# Altium integrated library Linear Technology PMIC-Switching Reg LT1074-LT8705.IntLib: 2252 symbols (part 58 of 124)
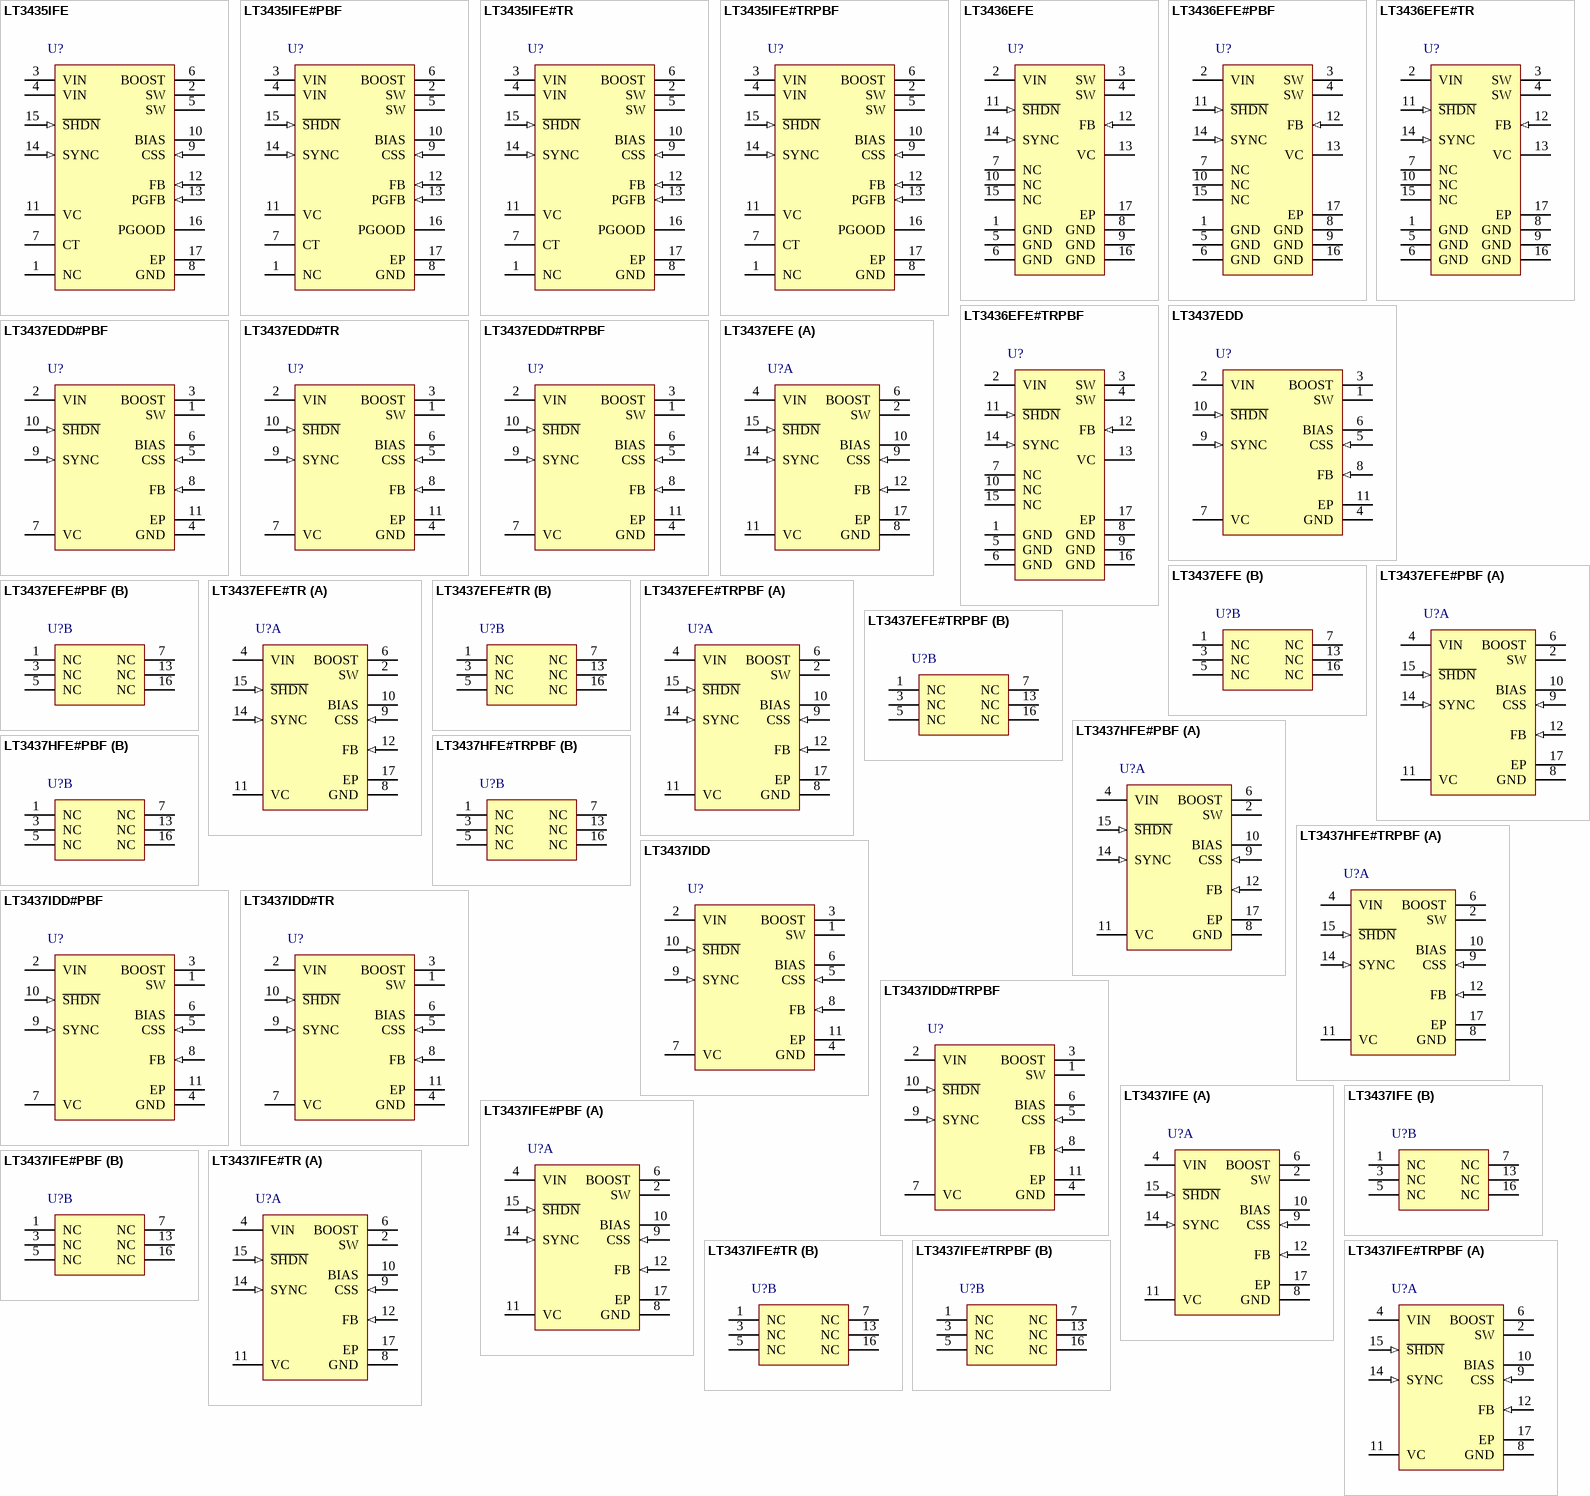
[diagram p128: symbols LT3435IFE to LT3437IFE#TRPBF]

## LT3436EFE#TR
designator U?
3 A, 800 kHz Step-Up Switching Regulator, 16-pin SOP (FE-16-EPV-BB), -40 to 125 degC, Tape and Reel; Manufacturer: Linear Technology; PartNumber: LT3436EFE#TR; Number of Outputs: 1; PackageReference: FE-16; PackageDescription: 16-Pin Plastic TSSOP, Body 5 x 4.4 mm, Pitch 0.65 mm; Supplier 1: Digi-Key; Supplier Part Number 1: LT3436EFE#TR-ND; RoHS: FALSE
footprint LT-FE-16-EPV-BB_N (SOP, 16-Leads, Body 5.1x4.5mm, Pitch 0.65mm, Thermal Pad 3.58x2.94mm, IPC Medium Density)
footprint LT-FE-16-EPV-BB_L (SOP, 16-Leads, Body 5.1x4.5mm, Pitch 0.65mm, Thermal Pad 3.58x2.94mm, IPC High Density)
footprint LT-FE-16-EPV-BB_M (SOP, 16-Leads, Body 5.1x4.5mm, Pitch 0.65mm, Thermal Pad 3.58x2.94mm, IPC Low Density)
pins: 1 GND (power) "Short GND pins 1, 5, 6,8, 9,16 and the exposed pad (pin 17) on the PCB. The GND is the reference for the regulated output, so load regulation will suffer if the “ground“ end of the load is not at the same voltage as (See Datasheet)", 2 VIN (power) "This pin powers the internal circuitry and internal regulator. Keep the external bypass capacitor close to this pin.", 3 SW (power) "The switch pin is the collector of the onchip power NPN switch and has large currents flowing through it. Keep the traces to the switching components as short as possible to minimize radiation and voltage spikes.", 4 SW (power) "The switch pin is the collector of the onchip power NPN switch and has large currents flowing through it. Keep the traces to the switching components as short as possible to minimize radiation and voltage spikes.", 5 GND (power) "Short GND pins 1, 5, 6,8, 9,16 and the exposed pad (pin 17) on the PCB. The GND is the reference for the regulated output, so load regulation will suffer if the “ground“ end of the load is not at the same voltage as (See Datasheet)", 6 GND (power) "Short GND pins 1, 5, 6,8, 9,16 and the exposed pad (pin 17) on the PCB. The GND is the reference for the regulated output, so load regulation will suffer if the “ground“ end of the load is not at the same voltage as (See Datasheet)", 7 NC, 8 GND (power) "Short GND pins 1, 5, 6,8, 9,16 and the exposed pad (pin 17) on the PCB. The GND is the reference for the regulated output, so load regulation will suffer if the “ground“ end of the load is not at the same voltage as (See Datasheet)", 9 GND (power) "Short GND pins 1, 5, 6,8, 9,16 and the exposed pad (pin 17) on the PCB. The GND is the reference for the regulated output, so load regulation will suffer if the “ground“ end of the load is not at the same voltage as (See Datasheet)", 10 NC, 11 ~{SHDN} (in) "The shutdown pin is used to turn off the regulator and to reduce input drain current to a few microamperes. The 1.35V threshold can function as an accurate undervoltage lockout (UVLO), preventing the regulator from operating (See Datasheet)", 12 FB (in) "The feedback pin is used to set output voltage using an external voltage divider that generates 1.2V at the pin with the desired output voltage. If required, the current limit can be reduced during start up when the FB pin (See Datasheet)", 13 VC "The VC pin is the output of the error amplifier and the input of the peak switch current comparator. It is normally used for frequency compensation, but can do double duty as a current clamp or control loop override. This (See Datasheet)", 14 SYNC (in) "The sync pin is used to synchronize the internal oscillator to an external signal. It is directly logic compatible and can be driven with any signal between 20% and 80% duty cycle. The synchronizing range is equal to initial (See Datasheet)", 15 NC, 16 GND (power) "Short GND pins 1, 5, 6,8, 9,16 and the exposed pad (pin 17) on the PCB. The GND is the reference for the regulated output, so load regulation will suffer if the “ground“ end of the load is not at the same voltage as (See Datasheet)", 17 EP (power) "Short GND pins 1, 5, 6,8, 9,16 and the exposed pad (pin 17) on the PCB. The GND is the reference for the regulated output, so load regulation will suffer if the “ground“ end of the load is not at the same voltage as (See Datasheet)"

## LT3436EFE#TRPBF
designator U?
3 A, 800 kHz Step-Up Switching Regulator, 16-pin SOP (FE-16-EPV-BB), -40 to 125 degC, Pb-Free, Tape and Reel; Manufacturer: Linear Technology; PartNumber: LT3436EFE#TRPBF; Number of Outputs: 1; PackageReference: FE-16; PackageDescription: 16-Pin Plastic TSSOP, Body 5 x 4.4 mm, Pitch 0.65 mm; Supplier 1: Digi-Key; Supplier Part Number 1: LT3436EFE#TRPBF-ND; RoHS: TRUE
footprint LT-FE-16-EPV-BB_N (SOP, 16-Leads, Body 5.1x4.5mm, Pitch 0.65mm, Thermal Pad 3.58x2.94mm, IPC Medium Density)
footprint LT-FE-16-EPV-BB_L (SOP, 16-Leads, Body 5.1x4.5mm, Pitch 0.65mm, Thermal Pad 3.58x2.94mm, IPC High Density)
footprint LT-FE-16-EPV-BB_M (SOP, 16-Leads, Body 5.1x4.5mm, Pitch 0.65mm, Thermal Pad 3.58x2.94mm, IPC Low Density)
pins: 1 GND (power) "Short GND pins 1, 5, 6,8, 9,16 and the exposed pad (pin 17) on the PCB. The GND is the reference for the regulated output, so load regulation will suffer if the “ground“ end of the load is not at the same voltage as (See Datasheet)", 2 VIN (power) "This pin powers the internal circuitry and internal regulator. Keep the external bypass capacitor close to this pin.", 3 SW (power) "The switch pin is the collector of the onchip power NPN switch and has large currents flowing through it. Keep the traces to the switching components as short as possible to minimize radiation and voltage spikes.", 4 SW (power) "The switch pin is the collector of the onchip power NPN switch and has large currents flowing through it. Keep the traces to the switching components as short as possible to minimize radiation and voltage spikes.", 5 GND (power) "Short GND pins 1, 5, 6,8, 9,16 and the exposed pad (pin 17) on the PCB. The GND is the reference for the regulated output, so load regulation will suffer if the “ground“ end of the load is not at the same voltage as (See Datasheet)", 6 GND (power) "Short GND pins 1, 5, 6,8, 9,16 and the exposed pad (pin 17) on the PCB. The GND is the reference for the regulated output, so load regulation will suffer if the “ground“ end of the load is not at the same voltage as (See Datasheet)", 7 NC, 8 GND (power) "Short GND pins 1, 5, 6,8, 9,16 and the exposed pad (pin 17) on the PCB. The GND is the reference for the regulated output, so load regulation will suffer if the “ground“ end of the load is not at the same voltage as (See Datasheet)", 9 GND (power) "Short GND pins 1, 5, 6,8, 9,16 and the exposed pad (pin 17) on the PCB. The GND is the reference for the regulated output, so load regulation will suffer if the “ground“ end of the load is not at the same voltage as (See Datasheet)", 10 NC, 11 ~{SHDN} (in) "The shutdown pin is used to turn off the regulator and to reduce input drain current to a few microamperes. The 1.35V threshold can function as an accurate undervoltage lockout (UVLO), preventing the regulator from operating (See Datasheet)", 12 FB (in) "The feedback pin is used to set output voltage using an external voltage divider that generates 1.2V at the pin with the desired output voltage. If required, the current limit can be reduced during start up when the FB pin (See Datasheet)", 13 VC "The VC pin is the output of the error amplifier and the input of the peak switch current comparator. It is normally used for frequency compensation, but can do double duty as a current clamp or control loop override. This (See Datasheet)", 14 SYNC (in) "The sync pin is used to synchronize the internal oscillator to an external signal. It is directly logic compatible and can be driven with any signal between 20% and 80% duty cycle. The synchronizing range is equal to initial (See Datasheet)", 15 NC, 16 GND (power) "Short GND pins 1, 5, 6,8, 9,16 and the exposed pad (pin 17) on the PCB. The GND is the reference for the regulated output, so load regulation will suffer if the “ground“ end of the load is not at the same voltage as (See Datasheet)", 17 EP (power) "Short GND pins 1, 5, 6,8, 9,16 and the exposed pad (pin 17) on the PCB. The GND is the reference for the regulated output, so load regulation will suffer if the “ground“ end of the load is not at the same voltage as (See Datasheet)"

## LT3437EDD
designator U?
High Voltage 500 mA, 200 kHz Step-Down Switching Regulator with 100 uA Quiescent Current, 10-pin SON (DD-10), -40 to 125 degC; Manufacturer: Linear Technology; PartNumber: LT3437EDD; Number of Outputs: 1; PackageReference: DD-10; PackageDescription: 10-Pin Plastic DFN, Body 3 x 3 mm, Pitch 0.5 mm; RoHS: FALSE
footprint LT-DD-10_V (SON, 10-Leads, Body 3x3mm, Pitch 0.5mm, Thermal Pad 2.38x1.65mm)
pins: 1 SW (power) "The SW pin is the emitter of the on-chip power NPN switch. This pin is driven up to the input pin voltage during switch on time. Inductor current drives the SW pin negative during switch off time. Negative voltage is clamped (See Datasheet)", 2 VIN (power) "This is the collector of the on-chip power NPN switch. VIN powers the internal control circuitry when a voltage on the BIAS pin is not present. High di/dt edges occur on this pin during switch turn on and off. Keep the path (See Datasheet)", 3 BOOST "The BOOST pin is used to provide a drive voltage, higher than the input voltage, to the internal bipolar NPN power switch. Without this added voltage, the typical switch voltage loss would be about 1.5V. The additional BOOST (See Datasheet)", 4 GND (power) "The GND pin connection acts as the reference for the regulated output, so load regulation will suffer if the “ground?end of the load is not at the same voltage as the GND pin of the IC. This condition will occur w(See Datasheet)", 5 CSS (in) "A capacitor from the CSS pin to the regulated output voltage determines the output voltage ramp rate during start-up. When the current through the CSS capacitor exceeds the CSS threshold (ICSS), the voltage ramp of the (See Datasheet)", 6 BIAS (power) "The BIAS pin is used to improve efficiency when operating at higher input voltages and light load current. Connecting this pin to the regulated output voltage forces most of the internal circuitry to draw its operating (See Datasheet)", 7 VC "The VC pin is the output of the error amplifier and the input of the peak switch current comparator. It is normally used for frequency compensation, but can also serve as a current clamp or control loop override. VC sits at (See Datasheet)", 8 FB (in) "The feedback pin is used to determine the output voltage using an external voltage divider from the output that generates 1.25V at the FB pin. When the FB pin drops below 0.9V, switching frequency is reduced, the SYNC (See Datasheet)", 9 SYNC (in) "The SYNC pin is used to synchronize the internal oscillator to an external signal. It is directly logic compatible and can be driven with any signal between 25% and 75% duty cycle. The synchronizing range is equal to maximum (See Datasheet)", 10 ~{SHDN} (in) "The S\H\D\N\ pin is used to turn off the regulator and to reduce input current to less than 1uA. The S\H\D\N\ pin requires a voltage above 1.3V with a typical source current of 5uA to take the IC out of the shutdown state.", 11 EP (power) "Ground. Must be soldered to the PCB."

## LT3437EDD#PBF
designator U?
High Voltage 500 mA, 200 kHz Step-Down Switching Regulator with 100 uA Quiescent Current, 10-pin SON (DD-10), -40 to 125 degC, Pb-Free; Manufacturer: Linear Technology; PartNumber: LT3437EDD#PBF; Number of Outputs: 1; PackageReference: DD-10; PackageDescription: 10-Pin Plastic DFN, Body 3 x 3 mm, Pitch 0.5 mm; Supplier 1: Digi-Key; Supplier Part Number 1: LT3437EDD#PBF-ND; RoHS: TRUE
footprint LT-DD-10_V (SON, 10-Leads, Body 3x3mm, Pitch 0.5mm, Thermal Pad 2.38x1.65mm)
pins: 1 SW (power) "The SW pin is the emitter of the on-chip power NPN switch. This pin is driven up to the input pin voltage during switch on time. Inductor current drives the SW pin negative during switch off time. Negative voltage is clamped (See Datasheet)", 2 VIN (power) "This is the collector of the on-chip power NPN switch. VIN powers the internal control circuitry when a voltage on the BIAS pin is not present. High di/dt edges occur on this pin during switch turn on and off. Keep the path (See Datasheet)", 3 BOOST "The BOOST pin is used to provide a drive voltage, higher than the input voltage, to the internal bipolar NPN power switch. Without this added voltage, the typical switch voltage loss would be about 1.5V. The additional BOOST (See Datasheet)", 4 GND (power) "The GND pin connection acts as the reference for the regulated output, so load regulation will suffer if the “ground?end of the load is not at the same voltage as the GND pin of the IC. This condition will occur w(See Datasheet)", 5 CSS (in) "A capacitor from the CSS pin to the regulated output voltage determines the output voltage ramp rate during start-up. When the current through the CSS capacitor exceeds the CSS threshold (ICSS), the voltage ramp of the (See Datasheet)", 6 BIAS (power) "The BIAS pin is used to improve efficiency when operating at higher input voltages and light load current. Connecting this pin to the regulated output voltage forces most of the internal circuitry to draw its operating (See Datasheet)", 7 VC "The VC pin is the output of the error amplifier and the input of the peak switch current comparator. It is normally used for frequency compensation, but can also serve as a current clamp or control loop override. VC sits at (See Datasheet)", 8 FB (in) "The feedback pin is used to determine the output voltage using an external voltage divider from the output that generates 1.25V at the FB pin. When the FB pin drops below 0.9V, switching frequency is reduced, the SYNC (See Datasheet)", 9 SYNC (in) "The SYNC pin is used to synchronize the internal oscillator to an external signal. It is directly logic compatible and can be driven with any signal between 25% and 75% duty cycle. The synchronizing range is equal to maximum (See Datasheet)", 10 ~{SHDN} (in) "The S\H\D\N\ pin is used to turn off the regulator and to reduce input current to less than 1uA. The S\H\D\N\ pin requires a voltage above 1.3V with a typical source current of 5uA to take the IC out of the shutdown state.", 11 EP (power) "Ground. Must be soldered to the PCB."

## LT3437EDD#TR
designator U?
High Voltage 500 mA, 200 kHz Step-Down Switching Regulator with 100 uA Quiescent Current, 10-pin SON (DD-10), -40 to 125 degC, Tape and Reel; Manufacturer: Linear Technology; PartNumber: LT3437EDD#TR; Number of Outputs: 1; PackageReference: DD-10; PackageDescription: 10-Pin Plastic DFN, Body 3 x 3 mm, Pitch 0.5 mm; RoHS: FALSE
footprint LT-DD-10_V (SON, 10-Leads, Body 3x3mm, Pitch 0.5mm, Thermal Pad 2.38x1.65mm)
pins: 1 SW (power) "The SW pin is the emitter of the on-chip power NPN switch. This pin is driven up to the input pin voltage during switch on time. Inductor current drives the SW pin negative during switch off time. Negative voltage is clamped (See Datasheet)", 2 VIN (power) "This is the collector of the on-chip power NPN switch. VIN powers the internal control circuitry when a voltage on the BIAS pin is not present. High di/dt edges occur on this pin during switch turn on and off. Keep the path (See Datasheet)", 3 BOOST "The BOOST pin is used to provide a drive voltage, higher than the input voltage, to the internal bipolar NPN power switch. Without this added voltage, the typical switch voltage loss would be about 1.5V. The additional BOOST (See Datasheet)", 4 GND (power) "The GND pin connection acts as the reference for the regulated output, so load regulation will suffer if the “ground?end of the load is not at the same voltage as the GND pin of the IC. This condition will occur w(See Datasheet)", 5 CSS (in) "A capacitor from the CSS pin to the regulated output voltage determines the output voltage ramp rate during start-up. When the current through the CSS capacitor exceeds the CSS threshold (ICSS), the voltage ramp of the (See Datasheet)", 6 BIAS (power) "The BIAS pin is used to improve efficiency when operating at higher input voltages and light load current. Connecting this pin to the regulated output voltage forces most of the internal circuitry to draw its operating (See Datasheet)", 7 VC "The VC pin is the output of the error amplifier and the input of the peak switch current comparator. It is normally used for frequency compensation, but can also serve as a current clamp or control loop override. VC sits at (See Datasheet)", 8 FB (in) "The feedback pin is used to determine the output voltage using an external voltage divider from the output that generates 1.25V at the FB pin. When the FB pin drops below 0.9V, switching frequency is reduced, the SYNC (See Datasheet)", 9 SYNC (in) "The SYNC pin is used to synchronize the internal oscillator to an external signal. It is directly logic compatible and can be driven with any signal between 25% and 75% duty cycle. The synchronizing range is equal to maximum (See Datasheet)", 10 ~{SHDN} (in) "The S\H\D\N\ pin is used to turn off the regulator and to reduce input current to less than 1uA. The S\H\D\N\ pin requires a voltage above 1.3V with a typical source current of 5uA to take the IC out of the shutdown state.", 11 EP (power) "Ground. Must be soldered to the PCB."

## LT3437EDD#TRPBF
designator U?
High Voltage 500 mA, 200 kHz Step-Down Switching Regulator with 100 uA Quiescent Current, 10-pin SON (DD-10), -40 to 125 degC, Pb-Free, Tape and Reel; Manufacturer: Linear Technology; PartNumber: LT3437EDD#TRPBF; Number of Outputs: 1; PackageReference: DD-10; PackageDescription: 10-Pin Plastic DFN, Body 3 x 3 mm, Pitch 0.5 mm; Supplier 1: Digi-Key; Supplier Part Number 1: LT3437EDD#TRPBF-ND; RoHS: TRUE
footprint LT-DD-10_V (SON, 10-Leads, Body 3x3mm, Pitch 0.5mm, Thermal Pad 2.38x1.65mm)
pins: 1 SW (power) "The SW pin is the emitter of the on-chip power NPN switch. This pin is driven up to the input pin voltage during switch on time. Inductor current drives the SW pin negative during switch off time. Negative voltage is clamped (See Datasheet)", 2 VIN (power) "This is the collector of the on-chip power NPN switch. VIN powers the internal control circuitry when a voltage on the BIAS pin is not present. High di/dt edges occur on this pin during switch turn on and off. Keep the path (See Datasheet)", 3 BOOST "The BOOST pin is used to provide a drive voltage, higher than the input voltage, to the internal bipolar NPN power switch. Without this added voltage, the typical switch voltage loss would be about 1.5V. The additional BOOST (See Datasheet)", 4 GND (power) "The GND pin connection acts as the reference for the regulated output, so load regulation will suffer if the “ground?end of the load is not at the same voltage as the GND pin of the IC. This condition will occur w(See Datasheet)", 5 CSS (in) "A capacitor from the CSS pin to the regulated output voltage determines the output voltage ramp rate during start-up. When the current through the CSS capacitor exceeds the CSS threshold (ICSS), the voltage ramp of the (See Datasheet)", 6 BIAS (power) "The BIAS pin is used to improve efficiency when operating at higher input voltages and light load current. Connecting this pin to the regulated output voltage forces most of the internal circuitry to draw its operating (See Datasheet)", 7 VC "The VC pin is the output of the error amplifier and the input of the peak switch current comparator. It is normally used for frequency compensation, but can also serve as a current clamp or control loop override. VC sits at (See Datasheet)", 8 FB (in) "The feedback pin is used to determine the output voltage using an external voltage divider from the output that generates 1.25V at the FB pin. When the FB pin drops below 0.9V, switching frequency is reduced, the SYNC (See Datasheet)", 9 SYNC (in) "The SYNC pin is used to synchronize the internal oscillator to an external signal. It is directly logic compatible and can be driven with any signal between 25% and 75% duty cycle. The synchronizing range is equal to maximum (See Datasheet)", 10 ~{SHDN} (in) "The S\H\D\N\ pin is used to turn off the regulator and to reduce input current to less than 1uA. The S\H\D\N\ pin requires a voltage above 1.3V with a typical source current of 5uA to take the IC out of the shutdown state.", 11 EP (power) "Ground. Must be soldered to the PCB."

## LT3437EFE
designator U?
High Voltage 500 mA, 200 kHz Step-Down Switching Regulator with 100 uA Quiescent Current, 16-pin SOP (FE-16), -40 to 125 degC; Manufacturer: Linear Technology; PartNumber: LT3437EFE; Number of Outputs: 1; PackageReference: FE-16; PackageDescription: 16-Pin Plastic TSSOP, Body 5 x 4.4 mm, Pitch 0.65 mm; RoHS: FALSE
footprint LT-FE-16-EPV-BC_N (SOP, 16-Leads, Body 5.1x4.5mm, Pitch 0.65mm, Thermal Pad 3.58x2.94mm, IPC Medium Density)
footprint LT-FE-16-EPV-BC_L (SOP, 16-Leads, Body 5.1x4.5mm, Pitch 0.65mm, Thermal Pad 3.58x2.94mm, IPC High Density)
footprint LT-FE-16-EPV-BC_M (SOP, 16-Leads, Body 5.1x4.5mm, Pitch 0.65mm, Thermal Pad 3.58x2.94mm, IPC Low Density)
part A pins: 2 SW (power) "The SW pin is the emitter of the on-chip power NPN switch. This pin is driven up to the input pin voltage during switch on time. Inductor current drives the SW pin negative during switch off time. Negative voltage is clamped (See Datasheet)", 4 VIN (power) "This is the collector of the on-chip power NPN switch. VIN powers the internal control circuitry when a voltage on the BIAS pin is not present. High di/dt edges occur on this pin during switch turn on and off. Keep the path (See Datasheet)", 6 BOOST "The BOOST pin is used to provide a drive voltage, higher than the input voltage, to the internal bipolar NPN power switch. Without this added voltage, the typical switch voltage loss would be about 1.5V. The additional BOOST (See Datasheet)", 8 GND (power) "The GND pin connection acts as the reference for the regulated output, so load regulation will suffer if the “ground?end of the load is not at the same voltage as the GND pin of the IC. This condition will occur w(See Datasheet)", 9 CSS (in) "A capacitor from the CSS pin to the regulated output voltage determines the output voltage ramp rate during start-up. When the current through the CSS capacitor exceeds the CSS threshold (ICSS), the voltage ramp of the (See Datasheet)", 10 BIAS (power) "The BIAS pin is used to improve efficiency when operating at higher input voltages and light load current. Connecting this pin to the regulated output voltage forces most of the internal circuitry to draw its operating (See Datasheet)", 11 VC "The VC pin is the output of the error amplifier and the input of the peak switch current comparator. It is normally used for frequency compensation, but can also serve as a current clamp or control loop override. VC sits at (See Datasheet)", 12 FB (in) "The feedback pin is used to determine the output voltage using an external voltage divider from the output that generates 1.25V at the FB pin. When the FB pin drops below 0.9V, switching frequency is reduced, the SYNC (See Datasheet)", 14 SYNC (in) "The SYNC pin is used to synchronize the internal oscillator to an external signal. It is directly logic compatible and can be driven with any signal between 25% and 75% duty cycle. The synchronizing range is equal to maximum (See Datasheet)", 15 ~{SHDN} (in) "The S\H\D\N\ pin is used to turn off the regulator and to reduce input current to less than 1uA. The S\H\D\N\ pin requires a voltage above 1.3V with a typical source current of 5uA to take the IC out of the shutdown state.", 17 EP (power) "Ground. Must be soldered to the PCB."
part B pins: 1 NC "No Connection. The NC pins are electrically isolated from the LT3437. The NC pins may be connected to PCB traces to aid PCB layout.", 3 NC "No Connection. The NC pins are electrically isolated from the LT3437. The NC pins may be connected to PCB traces to aid PCB layout.", 5 NC "No Connection. The NC pins are electrically isolated from the LT3437. The NC pins may be connected to PCB traces to aid PCB layout.", 7 NC "No Connection. The NC pins are electrically isolated from the LT3437. The NC pins may be connected to PCB traces to aid PCB layout.", 13 NC "No Connection. The NC pins are electrically isolated from the LT3437. The NC pins may be connected to PCB traces to aid PCB layout.", 16 NC "No Connection. The NC pins are electrically isolated from the LT3437. The NC pins may be connected to PCB traces to aid PCB layout."

## LT3437EFE#PBF
designator U?
High Voltage 500 mA, 200 kHz Step-Down Switching Regulator with 100 uA Quiescent Current, 16-pin SOP (FE-16), -40 to 125 degC, Pb-Free; Manufacturer: Linear Technology; PartNumber: LT3437EFE#PBF; Number of Outputs: 1; PackageReference: FE-16; PackageDescription: 16-Pin Plastic TSSOP, Body 5 x 4.4 mm, Pitch 0.65 mm; Supplier 1: Digi-Key; Supplier Part Number 1: LT3437EFE#PBF-ND; RoHS: TRUE
footprint LT-FE-16-EPV-BC_N (SOP, 16-Leads, Body 5.1x4.5mm, Pitch 0.65mm, Thermal Pad 3.58x2.94mm, IPC Medium Density)
footprint LT-FE-16-EPV-BC_L (SOP, 16-Leads, Body 5.1x4.5mm, Pitch 0.65mm, Thermal Pad 3.58x2.94mm, IPC High Density)
footprint LT-FE-16-EPV-BC_M (SOP, 16-Leads, Body 5.1x4.5mm, Pitch 0.65mm, Thermal Pad 3.58x2.94mm, IPC Low Density)
part A pins: 2 SW (power) "The SW pin is the emitter of the on-chip power NPN switch. This pin is driven up to the input pin voltage during switch on time. Inductor current drives the SW pin negative during switch off time. Negative voltage is clamped (See Datasheet)", 4 VIN (power) "This is the collector of the on-chip power NPN switch. VIN powers the internal control circuitry when a voltage on the BIAS pin is not present. High di/dt edges occur on this pin during switch turn on and off. Keep the path (See Datasheet)", 6 BOOST "The BOOST pin is used to provide a drive voltage, higher than the input voltage, to the internal bipolar NPN power switch. Without this added voltage, the typical switch voltage loss would be about 1.5V. The additional BOOST (See Datasheet)", 8 GND (power) "The GND pin connection acts as the reference for the regulated output, so load regulation will suffer if the “ground?end of the load is not at the same voltage as the GND pin of the IC. This condition will occur w(See Datasheet)", 9 CSS (in) "A capacitor from the CSS pin to the regulated output voltage determines the output voltage ramp rate during start-up. When the current through the CSS capacitor exceeds the CSS threshold (ICSS), the voltage ramp of the (See Datasheet)", 10 BIAS (power) "The BIAS pin is used to improve efficiency when operating at higher input voltages and light load current. Connecting this pin to the regulated output voltage forces most of the internal circuitry to draw its operating (See Datasheet)", 11 VC "The VC pin is the output of the error amplifier and the input of the peak switch current comparator. It is normally used for frequency compensation, but can also serve as a current clamp or control loop override. VC sits at (See Datasheet)", 12 FB (in) "The feedback pin is used to determine the output voltage using an external voltage divider from the output that generates 1.25V at the FB pin. When the FB pin drops below 0.9V, switching frequency is reduced, the SYNC (See Datasheet)", 14 SYNC (in) "The SYNC pin is used to synchronize the internal oscillator to an external signal. It is directly logic compatible and can be driven with any signal between 25% and 75% duty cycle. The synchronizing range is equal to maximum (See Datasheet)", 15 ~{SHDN} (in) "The S\H\D\N\ pin is used to turn off the regulator and to reduce input current to less than 1uA. The S\H\D\N\ pin requires a voltage above 1.3V with a typical source current of 5uA to take the IC out of the shutdown state.", 17 EP (power) "Ground. Must be soldered to the PCB."
part B pins: 1 NC "No Connection. The NC pins are electrically isolated from the LT3437. The NC pins may be connected to PCB traces to aid PCB layout.", 3 NC "No Connection. The NC pins are electrically isolated from the LT3437. The NC pins may be connected to PCB traces to aid PCB layout.", 5 NC "No Connection. The NC pins are electrically isolated from the LT3437. The NC pins may be connected to PCB traces to aid PCB layout.", 7 NC "No Connection. The NC pins are electrically isolated from the LT3437. The NC pins may be connected to PCB traces to aid PCB layout.", 13 NC "No Connection. The NC pins are electrically isolated from the LT3437. The NC pins may be connected to PCB traces to aid PCB layout.", 16 NC "No Connection. The NC pins are electrically isolated from the LT3437. The NC pins may be connected to PCB traces to aid PCB layout."

## LT3437EFE#TR
designator U?
High Voltage 500 mA, 200 kHz Step-Down Switching Regulator with 100 uA Quiescent Current, 16-pin SOP (FE-16), -40 to 125 degC, Tape and Reel; Manufacturer: Linear Technology; PartNumber: LT3437EFE#TR; Number of Outputs: 1; PackageReference: FE-16; PackageDescription: 16-Pin Plastic TSSOP, Body 5 x 4.4 mm, Pitch 0.65 mm; RoHS: FALSE
footprint LT-FE-16-EPV-BC_N (SOP, 16-Leads, Body 5.1x4.5mm, Pitch 0.65mm, Thermal Pad 3.58x2.94mm, IPC Medium Density)
footprint LT-FE-16-EPV-BC_L (SOP, 16-Leads, Body 5.1x4.5mm, Pitch 0.65mm, Thermal Pad 3.58x2.94mm, IPC High Density)
footprint LT-FE-16-EPV-BC_M (SOP, 16-Leads, Body 5.1x4.5mm, Pitch 0.65mm, Thermal Pad 3.58x2.94mm, IPC Low Density)
part A pins: 2 SW (power) "The SW pin is the emitter of the on-chip power NPN switch. This pin is driven up to the input pin voltage during switch on time. Inductor current drives the SW pin negative during switch off time. Negative voltage is clamped (See Datasheet)", 4 VIN (power) "This is the collector of the on-chip power NPN switch. VIN powers the internal control circuitry when a voltage on the BIAS pin is not present. High di/dt edges occur on this pin during switch turn on and off. Keep the path (See Datasheet)", 6 BOOST "The BOOST pin is used to provide a drive voltage, higher than the input voltage, to the internal bipolar NPN power switch. Without this added voltage, the typical switch voltage loss would be about 1.5V. The additional BOOST (See Datasheet)", 8 GND (power) "The GND pin connection acts as the reference for the regulated output, so load regulation will suffer if the “ground?end of the load is not at the same voltage as the GND pin of the IC. This condition will occur w(See Datasheet)", 9 CSS (in) "A capacitor from the CSS pin to the regulated output voltage determines the output voltage ramp rate during start-up. When the current through the CSS capacitor exceeds the CSS threshold (ICSS), the voltage ramp of the (See Datasheet)", 10 BIAS (power) "The BIAS pin is used to improve efficiency when operating at higher input voltages and light load current. Connecting this pin to the regulated output voltage forces most of the internal circuitry to draw its operating (See Datasheet)", 11 VC "The VC pin is the output of the error amplifier and the input of the peak switch current comparator. It is normally used for frequency compensation, but can also serve as a current clamp or control loop override. VC sits at (See Datasheet)", 12 FB (in) "The feedback pin is used to determine the output voltage using an external voltage divider from the output that generates 1.25V at the FB pin. When the FB pin drops below 0.9V, switching frequency is reduced, the SYNC (See Datasheet)", 14 SYNC (in) "The SYNC pin is used to synchronize the internal oscillator to an external signal. It is directly logic compatible and can be driven with any signal between 25% and 75% duty cycle. The synchronizing range is equal to maximum (See Datasheet)", 15 ~{SHDN} (in) "The S\H\D\N\ pin is used to turn off the regulator and to reduce input current to less than 1uA. The S\H\D\N\ pin requires a voltage above 1.3V with a typical source current of 5uA to take the IC out of the shutdown state.", 17 EP (power) "Ground. Must be soldered to the PCB."
part B pins: 1 NC "No Connection. The NC pins are electrically isolated from the LT3437. The NC pins may be connected to PCB traces to aid PCB layout.", 3 NC "No Connection. The NC pins are electrically isolated from the LT3437. The NC pins may be connected to PCB traces to aid PCB layout.", 5 NC "No Connection. The NC pins are electrically isolated from the LT3437. The NC pins may be connected to PCB traces to aid PCB layout.", 7 NC "No Connection. The NC pins are electrically isolated from the LT3437. The NC pins may be connected to PCB traces to aid PCB layout.", 13 NC "No Connection. The NC pins are electrically isolated from the LT3437. The NC pins may be connected to PCB traces to aid PCB layout.", 16 NC "No Connection. The NC pins are electrically isolated from the LT3437. The NC pins may be connected to PCB traces to aid PCB layout."

## LT3437EFE#TRPBF
designator U?
High Voltage 500 mA, 200 kHz Step-Down Switching Regulator with 100 uA Quiescent Current, 16-pin SOP (FE-16), -40 to 125 degC, Pb-Free, Tape and Reel; Manufacturer: Linear Technology; PartNumber: LT3437EFE#TRPBF; Number of Outputs: 1; PackageReference: FE-16; PackageDescription: 16-Pin Plastic TSSOP, Body 5 x 4.4 mm, Pitch 0.65 mm; Supplier 1: Digi-Key; Supplier Part Number 1: LT3437EFE#TRPBF-ND; RoHS: TRUE
footprint LT-FE-16-EPV-BC_N (SOP, 16-Leads, Body 5.1x4.5mm, Pitch 0.65mm, Thermal Pad 3.58x2.94mm, IPC Medium Density)
footprint LT-FE-16-EPV-BC_L (SOP, 16-Leads, Body 5.1x4.5mm, Pitch 0.65mm, Thermal Pad 3.58x2.94mm, IPC High Density)
footprint LT-FE-16-EPV-BC_M (SOP, 16-Leads, Body 5.1x4.5mm, Pitch 0.65mm, Thermal Pad 3.58x2.94mm, IPC Low Density)
part A pins: 2 SW (power) "The SW pin is the emitter of the on-chip power NPN switch. This pin is driven up to the input pin voltage during switch on time. Inductor current drives the SW pin negative during switch off time. Negative voltage is clamped (See Datasheet)", 4 VIN (power) "This is the collector of the on-chip power NPN switch. VIN powers the internal control circuitry when a voltage on the BIAS pin is not present. High di/dt edges occur on this pin during switch turn on and off. Keep the path (See Datasheet)", 6 BOOST "The BOOST pin is used to provide a drive voltage, higher than the input voltage, to the internal bipolar NPN power switch. Without this added voltage, the typical switch voltage loss would be about 1.5V. The additional BOOST (See Datasheet)", 8 GND (power) "The GND pin connection acts as the reference for the regulated output, so load regulation will suffer if the “ground?end of the load is not at the same voltage as the GND pin of the IC. This condition will occur w(See Datasheet)", 9 CSS (in) "A capacitor from the CSS pin to the regulated output voltage determines the output voltage ramp rate during start-up. When the current through the CSS capacitor exceeds the CSS threshold (ICSS), the voltage ramp of the (See Datasheet)", 10 BIAS (power) "The BIAS pin is used to improve efficiency when operating at higher input voltages and light load current. Connecting this pin to the regulated output voltage forces most of the internal circuitry to draw its operating (See Datasheet)", 11 VC "The VC pin is the output of the error amplifier and the input of the peak switch current comparator. It is normally used for frequency compensation, but can also serve as a current clamp or control loop override. VC sits at (See Datasheet)", 12 FB (in) "The feedback pin is used to determine the output voltage using an external voltage divider from the output that generates 1.25V at the FB pin. When the FB pin drops below 0.9V, switching frequency is reduced, the SYNC (See Datasheet)", 14 SYNC (in) "The SYNC pin is used to synchronize the internal oscillator to an external signal. It is directly logic compatible and can be driven with any signal between 25% and 75% duty cycle. The synchronizing range is equal to maximum (See Datasheet)", 15 ~{SHDN} (in) "The S\H\D\N\ pin is used to turn off the regulator and to reduce input current to less than 1uA. The S\H\D\N\ pin requires a voltage above 1.3V with a typical source current of 5uA to take the IC out of the shutdown state.", 17 EP (power) "Ground. Must be soldered to the PCB."
part B pins: 1 NC "No Connection. The NC pins are electrically isolated from the LT3437. The NC pins may be connected to PCB traces to aid PCB layout.", 3 NC "No Connection. The NC pins are electrically isolated from the LT3437. The NC pins may be connected to PCB traces to aid PCB layout.", 5 NC "No Connection. The NC pins are electrically isolated from the LT3437. The NC pins may be connected to PCB traces to aid PCB layout.", 7 NC "No Connection. The NC pins are electrically isolated from the LT3437. The NC pins may be connected to PCB traces to aid PCB layout.", 13 NC "No Connection. The NC pins are electrically isolated from the LT3437. The NC pins may be connected to PCB traces to aid PCB layout.", 16 NC "No Connection. The NC pins are electrically isolated from the LT3437. The NC pins may be connected to PCB traces to aid PCB layout."

## LT3437HFE#PBF
designator U?
High Voltage 500 mA, 200 kHz Step-Down Switching Regulator with 100 uA Quiescent Current, 16-pin SOP (FE-16), -40 to 140 degC, Pb-Free; Manufacturer: Linear Technology; PartNumber: LT3437HFE#PBF; Number of Outputs: 1; PackageReference: FE-16; PackageDescription: 16-Pin Plastic TSSOP, Body 5 x 4.4 mm, Pitch 0.65 mm; Supplier 1: Digi-Key; Supplier Part Number 1: LT3437HFE#PBF-ND; RoHS: TRUE
footprint LT-FE-16-EPV-BC_N (SOP, 16-Leads, Body 5.1x4.5mm, Pitch 0.65mm, Thermal Pad 3.58x2.94mm, IPC Medium Density)
footprint LT-FE-16-EPV-BC_L (SOP, 16-Leads, Body 5.1x4.5mm, Pitch 0.65mm, Thermal Pad 3.58x2.94mm, IPC High Density)
footprint LT-FE-16-EPV-BC_M (SOP, 16-Leads, Body 5.1x4.5mm, Pitch 0.65mm, Thermal Pad 3.58x2.94mm, IPC Low Density)
part A pins: 2 SW (power) "The SW pin is the emitter of the on-chip power NPN switch. This pin is driven up to the input pin voltage during switch on time. Inductor current drives the SW pin negative during switch off time. Negative voltage is clamped (See Datasheet)", 4 VIN (power) "This is the collector of the on-chip power NPN switch. VIN powers the internal control circuitry when a voltage on the BIAS pin is not present. High di/dt edges occur on this pin during switch turn on and off. Keep the path (See Datasheet)", 6 BOOST "The BOOST pin is used to provide a drive voltage, higher than the input voltage, to the internal bipolar NPN power switch. Without this added voltage, the typical switch voltage loss would be about 1.5V. The additional BOOST (See Datasheet)", 8 GND (power) "The GND pin connection acts as the reference for the regulated output, so load regulation will suffer if the “ground?end of the load is not at the same voltage as the GND pin of the IC. This condition will occur w(See Datasheet)", 9 CSS (in) "A capacitor from the CSS pin to the regulated output voltage determines the output voltage ramp rate during start-up. When the current through the CSS capacitor exceeds the CSS threshold (ICSS), the voltage ramp of the (See Datasheet)", 10 BIAS (power) "The BIAS pin is used to improve efficiency when operating at higher input voltages and light load current. Connecting this pin to the regulated output voltage forces most of the internal circuitry to draw its operating (See Datasheet)", 11 VC "The VC pin is the output of the error amplifier and the input of the peak switch current comparator. It is normally used for frequency compensation, but can also serve as a current clamp or control loop override. VC sits at (See Datasheet)", 12 FB (in) "The feedback pin is used to determine the output voltage using an external voltage divider from the output that generates 1.25V at the FB pin. When the FB pin drops below 0.9V, switching frequency is reduced, the SYNC (See Datasheet)", 14 SYNC (in) "The SYNC pin is used to synchronize the internal oscillator to an external signal. It is directly logic compatible and can be driven with any signal between 25% and 75% duty cycle. The synchronizing range is equal to maximum (See Datasheet)", 15 ~{SHDN} (in) "The S\H\D\N\ pin is used to turn off the regulator and to reduce input current to less than 1uA. The S\H\D\N\ pin requires a voltage above 1.3V with a typical source current of 5uA to take the IC out of the shutdown state.", 17 EP (power) "Ground. Must be soldered to the PCB."
part B pins: 1 NC "No Connection. The NC pins are electrically isolated from the LT3437. The NC pins may be connected to PCB traces to aid PCB layout.", 3 NC "No Connection. The NC pins are electrically isolated from the LT3437. The NC pins may be connected to PCB traces to aid PCB layout.", 5 NC "No Connection. The NC pins are electrically isolated from the LT3437. The NC pins may be connected to PCB traces to aid PCB layout.", 7 NC "No Connection. The NC pins are electrically isolated from the LT3437. The NC pins may be connected to PCB traces to aid PCB layout.", 13 NC "No Connection. The NC pins are electrically isolated from the LT3437. The NC pins may be connected to PCB traces to aid PCB layout.", 16 NC "No Connection. The NC pins are electrically isolated from the LT3437. The NC pins may be connected to PCB traces to aid PCB layout."

## LT3437HFE#TRPBF
designator U?
High Voltage 500 mA, 200 kHz Step-Down Switching Regulator with 100 uA Quiescent Current, 16-pin SOP (FE-16), -40 to 140 degC, Pb-Free, Tape and Reel; Manufacturer: Linear Technology; PartNumber: LT3437HFE#TRPBF; Number of Outputs: 1; PackageReference: FE-16; PackageDescription: 16-Pin Plastic TSSOP, Body 5 x 4.4 mm, Pitch 0.65 mm; Supplier 1: Digi-Key; Supplier Part Number 1: LT3437HFE#TRPBF-ND; RoHS: TRUE
footprint LT-FE-16-EPV-BC_N (SOP, 16-Leads, Body 5.1x4.5mm, Pitch 0.65mm, Thermal Pad 3.58x2.94mm, IPC Medium Density)
footprint LT-FE-16-EPV-BC_L (SOP, 16-Leads, Body 5.1x4.5mm, Pitch 0.65mm, Thermal Pad 3.58x2.94mm, IPC High Density)
footprint LT-FE-16-EPV-BC_M (SOP, 16-Leads, Body 5.1x4.5mm, Pitch 0.65mm, Thermal Pad 3.58x2.94mm, IPC Low Density)
part A pins: 2 SW (power) "The SW pin is the emitter of the on-chip power NPN switch. This pin is driven up to the input pin voltage during switch on time. Inductor current drives the SW pin negative during switch off time. Negative voltage is clamped (See Datasheet)", 4 VIN (power) "This is the collector of the on-chip power NPN switch. VIN powers the internal control circuitry when a voltage on the BIAS pin is not present. High di/dt edges occur on this pin during switch turn on and off. Keep the path (See Datasheet)", 6 BOOST "The BOOST pin is used to provide a drive voltage, higher than the input voltage, to the internal bipolar NPN power switch. Without this added voltage, the typical switch voltage loss would be about 1.5V. The additional BOOST (See Datasheet)", 8 GND (power) "The GND pin connection acts as the reference for the regulated output, so load regulation will suffer if the “ground?end of the load is not at the same voltage as the GND pin of the IC. This condition will occur w(See Datasheet)", 9 CSS (in) "A capacitor from the CSS pin to the regulated output voltage determines the output voltage ramp rate during start-up. When the current through the CSS capacitor exceeds the CSS threshold (ICSS), the voltage ramp of the (See Datasheet)", 10 BIAS (power) "The BIAS pin is used to improve efficiency when operating at higher input voltages and light load current. Connecting this pin to the regulated output voltage forces most of the internal circuitry to draw its operating (See Datasheet)", 11 VC "The VC pin is the output of the error amplifier and the input of the peak switch current comparator. It is normally used for frequency compensation, but can also serve as a current clamp or control loop override. VC sits at (See Datasheet)", 12 FB (in) "The feedback pin is used to determine the output voltage using an external voltage divider from the output that generates 1.25V at the FB pin. When the FB pin drops below 0.9V, switching frequency is reduced, the SYNC (See Datasheet)", 14 SYNC (in) "The SYNC pin is used to synchronize the internal oscillator to an external signal. It is directly logic compatible and can be driven with any signal between 25% and 75% duty cycle. The synchronizing range is equal to maximum (See Datasheet)", 15 ~{SHDN} (in) "The S\H\D\N\ pin is used to turn off the regulator and to reduce input current to less than 1uA. The S\H\D\N\ pin requires a voltage above 1.3V with a typical source current of 5uA to take the IC out of the shutdown state.", 17 EP (power) "Ground. Must be soldered to the PCB."
part B pins: 1 NC "No Connection. The NC pins are electrically isolated from the LT3437. The NC pins may be connected to PCB traces to aid PCB layout.", 3 NC "No Connection. The NC pins are electrically isolated from the LT3437. The NC pins may be connected to PCB traces to aid PCB layout.", 5 NC "No Connection. The NC pins are electrically isolated from the LT3437. The NC pins may be connected to PCB traces to aid PCB layout.", 7 NC "No Connection. The NC pins are electrically isolated from the LT3437. The NC pins may be connected to PCB traces to aid PCB layout.", 13 NC "No Connection. The NC pins are electrically isolated from the LT3437. The NC pins may be connected to PCB traces to aid PCB layout.", 16 NC "No Connection. The NC pins are electrically isolated from the LT3437. The NC pins may be connected to PCB traces to aid PCB layout."

## LT3437IDD
designator U?
High Voltage 500 mA, 200 kHz Step-Down Switching Regulator with 100 uA Quiescent Current, 10-pin SON (DD-10), -40 to 125 degC; Manufacturer: Linear Technology; PartNumber: LT3437IDD; Number of Outputs: 1; PackageReference: DD-10; PackageDescription: 10-Pin Plastic DFN, Body 3 x 3 mm, Pitch 0.5 mm; Supplier 1: Newark; Supplier Part Number 1: 57M8147; RoHS: FALSE
footprint LT-DD-10_V (SON, 10-Leads, Body 3x3mm, Pitch 0.5mm, Thermal Pad 2.38x1.65mm)
pins: 1 SW (power) "The SW pin is the emitter of the on-chip power NPN switch. This pin is driven up to the input pin voltage during switch on time. Inductor current drives the SW pin negative during switch off time. Negative voltage is clamped (See Datasheet)", 2 VIN (power) "This is the collector of the on-chip power NPN switch. VIN powers the internal control circuitry when a voltage on the BIAS pin is not present. High di/dt edges occur on this pin during switch turn on and off. Keep the path (See Datasheet)", 3 BOOST "The BOOST pin is used to provide a drive voltage, higher than the input voltage, to the internal bipolar NPN power switch. Without this added voltage, the typical switch voltage loss would be about 1.5V. The additional BOOST (See Datasheet)", 4 GND (power) "The GND pin connection acts as the reference for the regulated output, so load regulation will suffer if the “ground?end of the load is not at the same voltage as the GND pin of the IC. This condition will occur w(See Datasheet)", 5 CSS (in) "A capacitor from the CSS pin to the regulated output voltage determines the output voltage ramp rate during start-up. When the current through the CSS capacitor exceeds the CSS threshold (ICSS), the voltage ramp of the (See Datasheet)", 6 BIAS (power) "The BIAS pin is used to improve efficiency when operating at higher input voltages and light load current. Connecting this pin to the regulated output voltage forces most of the internal circuitry to draw its operating (See Datasheet)", 7 VC "The VC pin is the output of the error amplifier and the input of the peak switch current comparator. It is normally used for frequency compensation, but can also serve as a current clamp or control loop override. VC sits at (See Datasheet)", 8 FB (in) "The feedback pin is used to determine the output voltage using an external voltage divider from the output that generates 1.25V at the FB pin. When the FB pin drops below 0.9V, switching frequency is reduced, the SYNC (See Datasheet)", 9 SYNC (in) "The SYNC pin is used to synchronize the internal oscillator to an external signal. It is directly logic compatible and can be driven with any signal between 25% and 75% duty cycle. The synchronizing range is equal to maximum (See Datasheet)", 10 ~{SHDN} (in) "The S\H\D\N\ pin is used to turn off the regulator and to reduce input current to less than 1uA. The S\H\D\N\ pin requires a voltage above 1.3V with a typical source current of 5uA to take the IC out of the shutdown state.", 11 EP (power) "Ground. Must be soldered to the PCB."